# Altium integrated library Cypress PLD MAX EPLD.IntLib: 163 symbols (part 4 of 6)
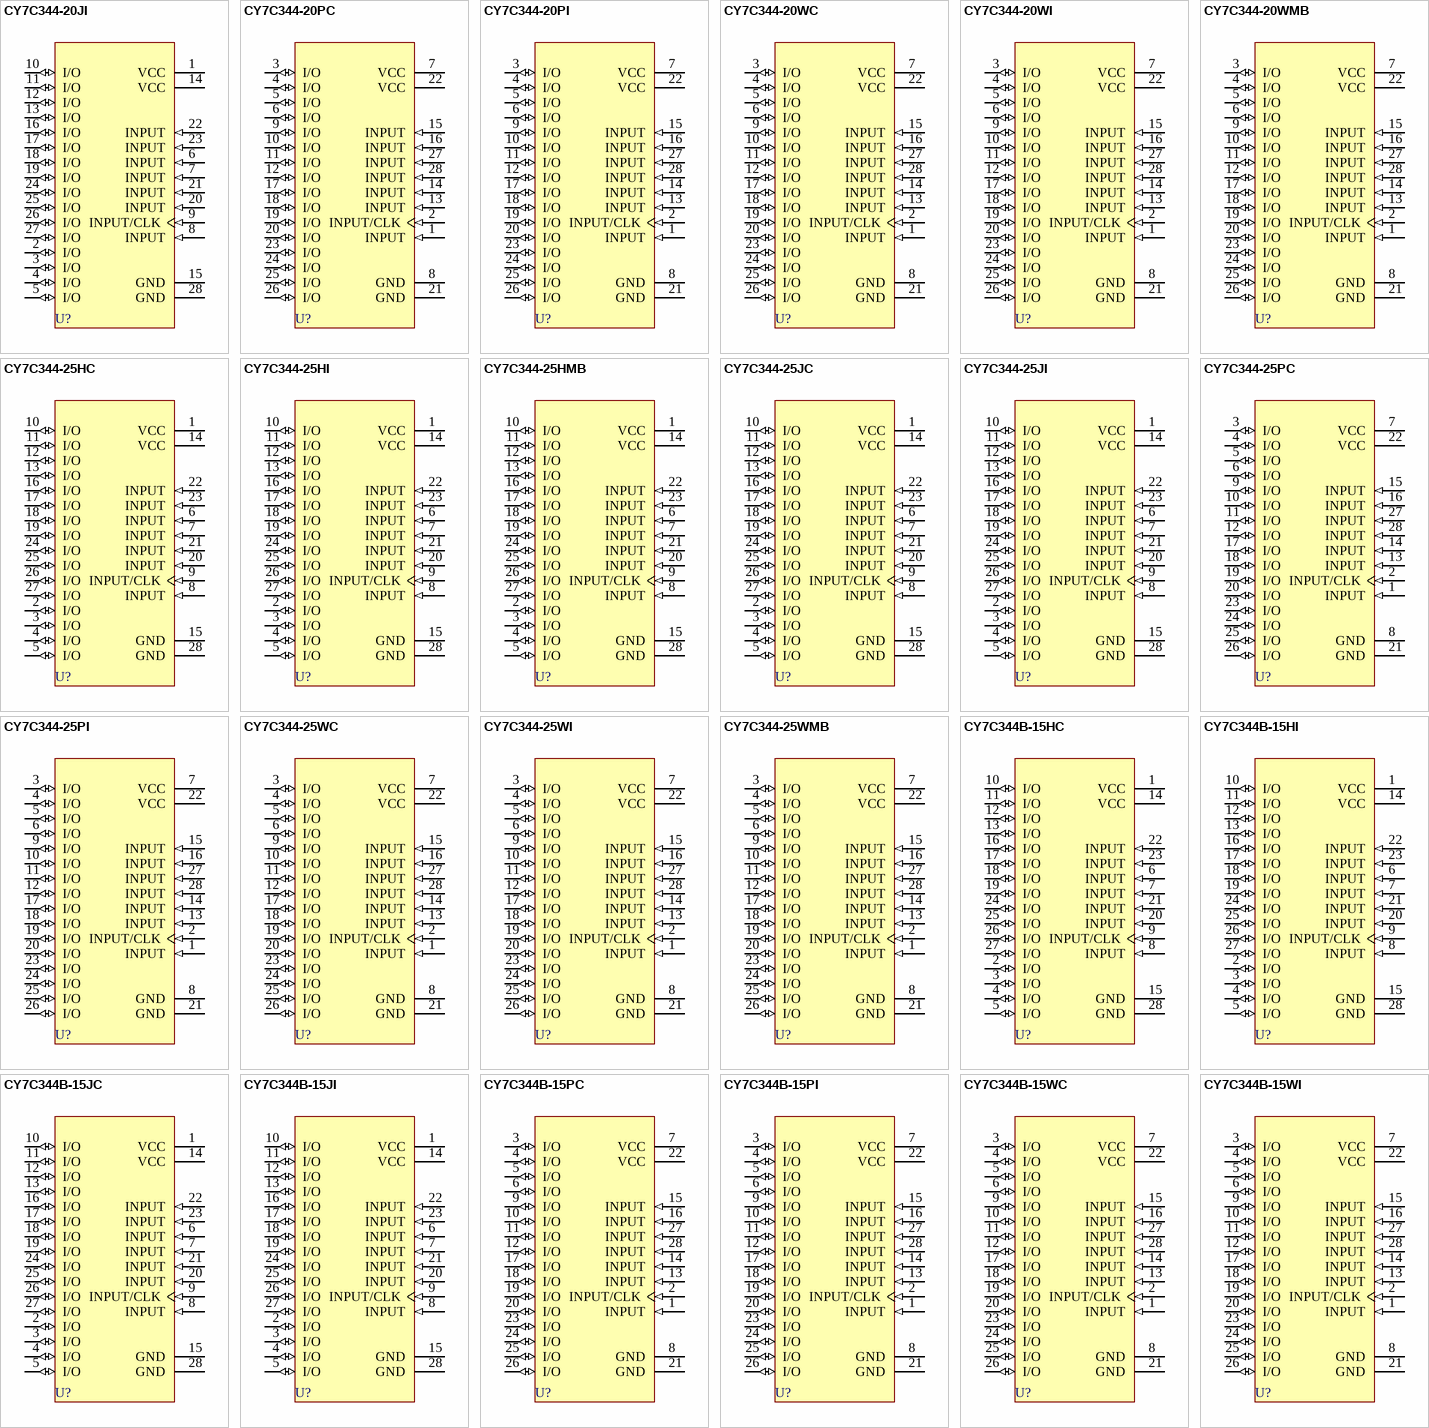
[diagram p26: symbols CY7C344-20JI to CY7C344B-15WI]

## CY7C344-20PC
designator U?
32-Macrocell MAX EPLD; Published: 11-Dec-2002; LatestRevisionDate: 04-Mar-2005; LatestRevisionNote: Stylized 3D Model Added.; DatasheetVersion: 18-Jul-2000; PackageVersion: Jul-2000; PackageReference: P21; Publisher: Altium Limited; PackageDescription: DIP, Molded; 28 Leads; Row Spacing 7.62 mm; Pitch 2.54 mm; ComponentLink1Description: Manufacturer Link; ComponentLink1URL: http://www.cypress.com/
footprint P21 (DIP, Molded; 28 Leads; Row Spacing 7.62 mm; Pitch 2.54 mm)
3D model P21 (DIP, Molded; 28 Leads; Row Spacing 7.62 mm; Pitch 2.54 mm)
pins: 1 INPUT (in), 2 INPUT/CLK (in), 3 I/O (io), 4 I/O (io), 5 I/O (io), 6 I/O (io), 7 VCC (power), 8 GND (power), 9 I/O (io), 10 I/O (io), 11 I/O (io), 12 I/O (io), 13 INPUT (in), 14 INPUT (in), 15 INPUT (in), 16 INPUT (in), 17 I/O (io), 18 I/O (io), 19 I/O (io), 20 I/O (io), 21 GND (power), 22 VCC (power), 23 I/O (io), 24 I/O (io), 25 I/O (io), 26 I/O (io), 27 INPUT (in), 28 INPUT (in)

## CY7C344-20PI
designator U?
32-Macrocell MAX EPLD; Published: 11-Dec-2002; LatestRevisionDate: 04-Mar-2005; LatestRevisionNote: Stylized 3D Model Added.; DatasheetVersion: 18-Jul-2000; PackageVersion: Jul-2000; PackageReference: P21; Publisher: Altium Limited; PackageDescription: DIP, Molded; 28 Leads; Row Spacing 7.62 mm; Pitch 2.54 mm; ComponentLink1Description: Manufacturer Link; ComponentLink1URL: http://www.cypress.com/
footprint P21 (DIP, Molded; 28 Leads; Row Spacing 7.62 mm; Pitch 2.54 mm)
3D model P21 (DIP, Molded; 28 Leads; Row Spacing 7.62 mm; Pitch 2.54 mm)
pins: 1 INPUT (in), 2 INPUT/CLK (in), 3 I/O (io), 4 I/O (io), 5 I/O (io), 6 I/O (io), 7 VCC (power), 8 GND (power), 9 I/O (io), 10 I/O (io), 11 I/O (io), 12 I/O (io), 13 INPUT (in), 14 INPUT (in), 15 INPUT (in), 16 INPUT (in), 17 I/O (io), 18 I/O (io), 19 I/O (io), 20 I/O (io), 21 GND (power), 22 VCC (power), 23 I/O (io), 24 I/O (io), 25 I/O (io), 26 I/O (io), 27 INPUT (in), 28 INPUT (in)

## CY7C344-20WC
designator U?
32-Macrocell MAX EPLD; Published: 11-Dec-2002; LatestRevisionDate: 04-Mar-2005; LatestRevisionNote: Stylized 3D Model Added.; DatasheetVersion: 18-Jul-2000; PackageVersion: Jul-2000; PackageReference: W22; Publisher: Altium Limited; PackageDescription: CerDIP, Window; 28 Leads; Row Spacing 7.62 mm; Pitch 2.54 mm; ComponentLink1Description: Manufacturer Link; ComponentLink1URL: http://www.cypress.com/
footprint W22 (CerDIP, Window; 28 Leads; Row Spacing 7.62 mm; Pitch 2.54 mm)
3D model W22 (CerDIP, Window; 28 Leads; Row Spacing 7.62 mm; Pitch 2.54 mm)
pins: 1 INPUT (in), 2 INPUT/CLK (in), 3 I/O (io), 4 I/O (io), 5 I/O (io), 6 I/O (io), 7 VCC (power), 8 GND (power), 9 I/O (io), 10 I/O (io), 11 I/O (io), 12 I/O (io), 13 INPUT (in), 14 INPUT (in), 15 INPUT (in), 16 INPUT (in), 17 I/O (io), 18 I/O (io), 19 I/O (io), 20 I/O (io), 21 GND (power), 22 VCC (power), 23 I/O (io), 24 I/O (io), 25 I/O (io), 26 I/O (io), 27 INPUT (in), 28 INPUT (in)

## CY7C344-20WI
designator U?
32-Macrocell MAX EPLD; Published: 11-Dec-2002; LatestRevisionDate: 04-Mar-2005; LatestRevisionNote: Stylized 3D Model Added.; DatasheetVersion: 18-Jul-2000; PackageVersion: Jul-2000; PackageReference: W22; Publisher: Altium Limited; PackageDescription: CerDIP, Window; 28 Leads; Row Spacing 7.62 mm; Pitch 2.54 mm; ComponentLink1Description: Manufacturer Link; ComponentLink1URL: http://www.cypress.com/
footprint W22 (CerDIP, Window; 28 Leads; Row Spacing 7.62 mm; Pitch 2.54 mm)
3D model W22 (CerDIP, Window; 28 Leads; Row Spacing 7.62 mm; Pitch 2.54 mm)
pins: 1 INPUT (in), 2 INPUT/CLK (in), 3 I/O (io), 4 I/O (io), 5 I/O (io), 6 I/O (io), 7 VCC (power), 8 GND (power), 9 I/O (io), 10 I/O (io), 11 I/O (io), 12 I/O (io), 13 INPUT (in), 14 INPUT (in), 15 INPUT (in), 16 INPUT (in), 17 I/O (io), 18 I/O (io), 19 I/O (io), 20 I/O (io), 21 GND (power), 22 VCC (power), 23 I/O (io), 24 I/O (io), 25 I/O (io), 26 I/O (io), 27 INPUT (in), 28 INPUT (in)

## CY7C344-20WMB
designator U?
32-Macrocell MAX EPLD; Published: 11-Dec-2002; LatestRevisionDate: 04-Mar-2005; LatestRevisionNote: Stylized 3D Model Added.; DatasheetVersion: 18-Jul-2000; PackageVersion: Jul-2000; PackageReference: W22; Publisher: Altium Limited; PackageDescription: CerDIP, Window; 28 Leads; Row Spacing 7.62 mm; Pitch 2.54 mm; ComponentLink1Description: Manufacturer Link; ComponentLink1URL: http://www.cypress.com/
footprint W22 (CerDIP, Window; 28 Leads; Row Spacing 7.62 mm; Pitch 2.54 mm)
3D model W22 (CerDIP, Window; 28 Leads; Row Spacing 7.62 mm; Pitch 2.54 mm)
pins: 1 INPUT (in), 2 INPUT/CLK (in), 3 I/O (io), 4 I/O (io), 5 I/O (io), 6 I/O (io), 7 VCC (power), 8 GND (power), 9 I/O (io), 10 I/O (io), 11 I/O (io), 12 I/O (io), 13 INPUT (in), 14 INPUT (in), 15 INPUT (in), 16 INPUT (in), 17 I/O (io), 18 I/O (io), 19 I/O (io), 20 I/O (io), 21 GND (power), 22 VCC (power), 23 I/O (io), 24 I/O (io), 25 I/O (io), 26 I/O (io), 27 INPUT (in), 28 INPUT (in)

## CY7C344-25HC
designator U?
32-Macrocell MAX EPLD; Published: 11-Dec-2002; LatestRevisionDate: 13-Apr-2006; LatestRevisionNote: IPC-7351 Footprint Added.; DatasheetVersion: 18-Jul-2000; PackageVersion: Jul-2000; PackageReference: H64; Publisher: Altium Limited; PackageDescription: 28-Pin Window Leaded Chip Carrier 1.27 mm Pitch; ComponentLink1Description: Manufacturer Link; ComponentLink1URL: http://www.cypress.com/
footprint H64_N (Leaded Chip Carrier, 28-Leads, Body 11.4x11.4mm, Pitch 1.27mm, IPC Medium Density)
footprint H64_L (Leaded Chip Carrier, 28-Leads, Body 11.4x11.4mm, Pitch 1.27mm, IPC High Density)
footprint H64_M (Leaded Chip Carrier, 28-Leads, Body 11.4x11.4mm, Pitch 1.27mm, IPC Low Density)
3D model CY7C344-H64 (28-Pin Window Leaded Chip Carrier 1.27 mm Pitch)
pins: 1 VCC (power), 2 I/O (io), 3 I/O (io), 4 I/O (io), 5 I/O (io), 6 INPUT (in), 7 INPUT (in), 8 INPUT (in), 9 INPUT/CLK (in), 10 I/O (io), 11 I/O (io), 12 I/O (io), 13 I/O (io), 14 VCC (power), 15 GND (power), 16 I/O (io), 17 I/O (io), 18 I/O (io), 19 I/O (io), 20 INPUT (in), 21 INPUT (in), 22 INPUT (in), 23 INPUT (in), 24 I/O (io), 25 I/O (io), 26 I/O (io), 27 I/O (io), 28 GND (power)

## CY7C344-25HI
designator U?
32-Macrocell MAX EPLD; Published: 11-Dec-2002; LatestRevisionDate: 13-Apr-2006; LatestRevisionNote: IPC-7351 Footprint Added.; DatasheetVersion: 18-Jul-2000; PackageVersion: Jul-2000; PackageReference: H64; Publisher: Altium Limited; PackageDescription: 28-Pin Window Leaded Chip Carrier 1.27 mm Pitch; ComponentLink1Description: Manufacturer Link; ComponentLink1URL: http://www.cypress.com/
footprint H64_N (Leaded Chip Carrier, 28-Leads, Body 11.4x11.4mm, Pitch 1.27mm, IPC Medium Density)
footprint H64_L (Leaded Chip Carrier, 28-Leads, Body 11.4x11.4mm, Pitch 1.27mm, IPC High Density)
footprint H64_M (Leaded Chip Carrier, 28-Leads, Body 11.4x11.4mm, Pitch 1.27mm, IPC Low Density)
3D model CY7C344-H64 (28-Pin Window Leaded Chip Carrier 1.27 mm Pitch)
pins: 1 VCC (power), 2 I/O (io), 3 I/O (io), 4 I/O (io), 5 I/O (io), 6 INPUT (in), 7 INPUT (in), 8 INPUT (in), 9 INPUT/CLK (in), 10 I/O (io), 11 I/O (io), 12 I/O (io), 13 I/O (io), 14 VCC (power), 15 GND (power), 16 I/O (io), 17 I/O (io), 18 I/O (io), 19 I/O (io), 20 INPUT (in), 21 INPUT (in), 22 INPUT (in), 23 INPUT (in), 24 I/O (io), 25 I/O (io), 26 I/O (io), 27 I/O (io), 28 GND (power)

## CY7C344-25HMB
designator U?
32-Macrocell MAX EPLD; Published: 11-Dec-2002; LatestRevisionDate: 13-Apr-2006; LatestRevisionNote: IPC-7351 Footprint Added.; DatasheetVersion: 18-Jul-2000; PackageVersion: Jul-2000; PackageReference: H64; Publisher: Altium Limited; PackageDescription: 28-Pin Window Leaded Chip Carrier 1.27 mm Pitch; ComponentLink1Description: Manufacturer Link; ComponentLink1URL: http://www.cypress.com/
footprint H64_N (Leaded Chip Carrier, 28-Leads, Body 11.4x11.4mm, Pitch 1.27mm, IPC Medium Density)
footprint H64_L (Leaded Chip Carrier, 28-Leads, Body 11.4x11.4mm, Pitch 1.27mm, IPC High Density)
footprint H64_M (Leaded Chip Carrier, 28-Leads, Body 11.4x11.4mm, Pitch 1.27mm, IPC Low Density)
3D model CY7C344-H64 (28-Pin Window Leaded Chip Carrier 1.27 mm Pitch)
pins: 1 VCC (power), 2 I/O (io), 3 I/O (io), 4 I/O (io), 5 I/O (io), 6 INPUT (in), 7 INPUT (in), 8 INPUT (in), 9 INPUT/CLK (in), 10 I/O (io), 11 I/O (io), 12 I/O (io), 13 I/O (io), 14 VCC (power), 15 GND (power), 16 I/O (io), 17 I/O (io), 18 I/O (io), 19 I/O (io), 20 INPUT (in), 21 INPUT (in), 22 INPUT (in), 23 INPUT (in), 24 I/O (io), 25 I/O (io), 26 I/O (io), 27 I/O (io), 28 GND (power)

## CY7C344-25JC
designator U?
32-Macrocell MAX EPLD; Published: 11-Dec-2002; LatestRevisionDate: 13-Apr-2006; LatestRevisionNote: IPC-7351 Footprint Added.; DatasheetVersion: 18-Jul-2000; PackageVersion: Jul-2000; PackageReference: J64; Publisher: Altium Limited; PackageDescription: 28-Pin Plastic Leaded Chip Carrier 1.27 mm Pitch; Code_IPC: PLCC-28; ComponentLink1Description: Manufacturer Link; ComponentLink1URL: http://www.cypress.com/
footprint J64_N (Leaded Chip Carrier, 28-Leads, Body 11.5x11.5mm, Pitch 1.27mm, IPC Medium Density)
footprint J64_L (Leaded Chip Carrier, 28-Leads, Body 11.5x11.5mm, Pitch 1.27mm, IPC High Density)
footprint J64_M (Leaded Chip Carrier, 28-Leads, Body 11.5x11.5mm, Pitch 1.27mm, IPC Low Density)
3D model CY7C344-J64 (28-Pin Plastic Leaded Chip Carrier 1.27 mm Pitch)
pins: 1 VCC (power), 2 I/O (io), 3 I/O (io), 4 I/O (io), 5 I/O (io), 6 INPUT (in), 7 INPUT (in), 8 INPUT (in), 9 INPUT/CLK (in), 10 I/O (io), 11 I/O (io), 12 I/O (io), 13 I/O (io), 14 VCC (power), 15 GND (power), 16 I/O (io), 17 I/O (io), 18 I/O (io), 19 I/O (io), 20 INPUT (in), 21 INPUT (in), 22 INPUT (in), 23 INPUT (in), 24 I/O (io), 25 I/O (io), 26 I/O (io), 27 I/O (io), 28 GND (power)

## CY7C344-25JI
designator U?
32-Macrocell MAX EPLD; Published: 11-Dec-2002; LatestRevisionDate: 13-Apr-2006; LatestRevisionNote: IPC-7351 Footprint Added.; DatasheetVersion: 18-Jul-2000; PackageVersion: Jul-2000; PackageReference: J64; Publisher: Altium Limited; PackageDescription: 28-Pin Plastic Leaded Chip Carrier 1.27 mm Pitch; Code_IPC: PLCC-28; ComponentLink1Description: Manufacturer Link; ComponentLink1URL: http://www.cypress.com/
footprint J64_N (Leaded Chip Carrier, 28-Leads, Body 11.5x11.5mm, Pitch 1.27mm, IPC Medium Density)
footprint J64_L (Leaded Chip Carrier, 28-Leads, Body 11.5x11.5mm, Pitch 1.27mm, IPC High Density)
footprint J64_M (Leaded Chip Carrier, 28-Leads, Body 11.5x11.5mm, Pitch 1.27mm, IPC Low Density)
3D model CY7C344-J64 (28-Pin Plastic Leaded Chip Carrier 1.27 mm Pitch)
pins: 1 VCC (power), 2 I/O (io), 3 I/O (io), 4 I/O (io), 5 I/O (io), 6 INPUT (in), 7 INPUT (in), 8 INPUT (in), 9 INPUT/CLK (in), 10 I/O (io), 11 I/O (io), 12 I/O (io), 13 I/O (io), 14 VCC (power), 15 GND (power), 16 I/O (io), 17 I/O (io), 18 I/O (io), 19 I/O (io), 20 INPUT (in), 21 INPUT (in), 22 INPUT (in), 23 INPUT (in), 24 I/O (io), 25 I/O (io), 26 I/O (io), 27 I/O (io), 28 GND (power)

## CY7C344-25PC
designator U?
32-Macrocell MAX EPLD; Published: 11-Dec-2002; LatestRevisionDate: 04-Mar-2005; LatestRevisionNote: Stylized 3D Model Added.; DatasheetVersion: 18-Jul-2000; PackageVersion: Jul-2000; PackageReference: P21; Publisher: Altium Limited; PackageDescription: DIP, Molded; 28 Leads; Row Spacing 7.62 mm; Pitch 2.54 mm; ComponentLink1Description: Manufacturer Link; ComponentLink1URL: http://www.cypress.com/
footprint P21 (DIP, Molded; 28 Leads; Row Spacing 7.62 mm; Pitch 2.54 mm)
3D model P21 (DIP, Molded; 28 Leads; Row Spacing 7.62 mm; Pitch 2.54 mm)
pins: 1 INPUT (in), 2 INPUT/CLK (in), 3 I/O (io), 4 I/O (io), 5 I/O (io), 6 I/O (io), 7 VCC (power), 8 GND (power), 9 I/O (io), 10 I/O (io), 11 I/O (io), 12 I/O (io), 13 INPUT (in), 14 INPUT (in), 15 INPUT (in), 16 INPUT (in), 17 I/O (io), 18 I/O (io), 19 I/O (io), 20 I/O (io), 21 GND (power), 22 VCC (power), 23 I/O (io), 24 I/O (io), 25 I/O (io), 26 I/O (io), 27 INPUT (in), 28 INPUT (in)

## CY7C344-25PI
designator U?
32-Macrocell MAX EPLD; Published: 11-Dec-2002; LatestRevisionDate: 04-Mar-2005; LatestRevisionNote: Stylized 3D Model Added.; DatasheetVersion: 18-Jul-2000; PackageVersion: Jul-2000; PackageReference: P21; Publisher: Altium Limited; PackageDescription: DIP, Molded; 28 Leads; Row Spacing 7.62 mm; Pitch 2.54 mm; ComponentLink1Description: Manufacturer Link; ComponentLink1URL: http://www.cypress.com/
footprint P21 (DIP, Molded; 28 Leads; Row Spacing 7.62 mm; Pitch 2.54 mm)
3D model P21 (DIP, Molded; 28 Leads; Row Spacing 7.62 mm; Pitch 2.54 mm)
pins: 1 INPUT (in), 2 INPUT/CLK (in), 3 I/O (io), 4 I/O (io), 5 I/O (io), 6 I/O (io), 7 VCC (power), 8 GND (power), 9 I/O (io), 10 I/O (io), 11 I/O (io), 12 I/O (io), 13 INPUT (in), 14 INPUT (in), 15 INPUT (in), 16 INPUT (in), 17 I/O (io), 18 I/O (io), 19 I/O (io), 20 I/O (io), 21 GND (power), 22 VCC (power), 23 I/O (io), 24 I/O (io), 25 I/O (io), 26 I/O (io), 27 INPUT (in), 28 INPUT (in)

## CY7C344-25WC
designator U?
32-Macrocell MAX EPLD; Published: 11-Dec-2002; LatestRevisionDate: 04-Mar-2005; LatestRevisionNote: Stylized 3D Model Added.; DatasheetVersion: 18-Jul-2000; PackageVersion: Jul-2000; PackageReference: W22; Publisher: Altium Limited; PackageDescription: CerDIP, Window; 28 Leads; Row Spacing 7.62 mm; Pitch 2.54 mm; ComponentLink1Description: Manufacturer Link; ComponentLink1URL: http://www.cypress.com/
footprint W22 (CerDIP, Window; 28 Leads; Row Spacing 7.62 mm; Pitch 2.54 mm)
3D model W22 (CerDIP, Window; 28 Leads; Row Spacing 7.62 mm; Pitch 2.54 mm)
pins: 1 INPUT (in), 2 INPUT/CLK (in), 3 I/O (io), 4 I/O (io), 5 I/O (io), 6 I/O (io), 7 VCC (power), 8 GND (power), 9 I/O (io), 10 I/O (io), 11 I/O (io), 12 I/O (io), 13 INPUT (in), 14 INPUT (in), 15 INPUT (in), 16 INPUT (in), 17 I/O (io), 18 I/O (io), 19 I/O (io), 20 I/O (io), 21 GND (power), 22 VCC (power), 23 I/O (io), 24 I/O (io), 25 I/O (io), 26 I/O (io), 27 INPUT (in), 28 INPUT (in)

## CY7C344-25WI
designator U?
32-Macrocell MAX EPLD; Published: 11-Dec-2002; LatestRevisionDate: 04-Mar-2005; LatestRevisionNote: Stylized 3D Model Added.; DatasheetVersion: 18-Jul-2000; PackageVersion: Jul-2000; PackageReference: W22; Publisher: Altium Limited; PackageDescription: CerDIP, Window; 28 Leads; Row Spacing 7.62 mm; Pitch 2.54 mm; ComponentLink1Description: Manufacturer Link; ComponentLink1URL: http://www.cypress.com/
footprint W22 (CerDIP, Window; 28 Leads; Row Spacing 7.62 mm; Pitch 2.54 mm)
3D model W22 (CerDIP, Window; 28 Leads; Row Spacing 7.62 mm; Pitch 2.54 mm)
pins: 1 INPUT (in), 2 INPUT/CLK (in), 3 I/O (io), 4 I/O (io), 5 I/O (io), 6 I/O (io), 7 VCC (power), 8 GND (power), 9 I/O (io), 10 I/O (io), 11 I/O (io), 12 I/O (io), 13 INPUT (in), 14 INPUT (in), 15 INPUT (in), 16 INPUT (in), 17 I/O (io), 18 I/O (io), 19 I/O (io), 20 I/O (io), 21 GND (power), 22 VCC (power), 23 I/O (io), 24 I/O (io), 25 I/O (io), 26 I/O (io), 27 INPUT (in), 28 INPUT (in)

## CY7C344-25WMB
designator U?
32-Macrocell MAX EPLD; Published: 11-Dec-2002; LatestRevisionDate: 04-Mar-2005; LatestRevisionNote: Stylized 3D Model Added.; DatasheetVersion: 18-Jul-2000; PackageVersion: Jul-2000; PackageReference: W22; Publisher: Altium Limited; PackageDescription: CerDIP, Window; 28 Leads; Row Spacing 7.62 mm; Pitch 2.54 mm; ComponentLink1Description: Manufacturer Link; ComponentLink1URL: http://www.cypress.com/
footprint W22 (CerDIP, Window; 28 Leads; Row Spacing 7.62 mm; Pitch 2.54 mm)
3D model W22 (CerDIP, Window; 28 Leads; Row Spacing 7.62 mm; Pitch 2.54 mm)
pins: 1 INPUT (in), 2 INPUT/CLK (in), 3 I/O (io), 4 I/O (io), 5 I/O (io), 6 I/O (io), 7 VCC (power), 8 GND (power), 9 I/O (io), 10 I/O (io), 11 I/O (io), 12 I/O (io), 13 INPUT (in), 14 INPUT (in), 15 INPUT (in), 16 INPUT (in), 17 I/O (io), 18 I/O (io), 19 I/O (io), 20 I/O (io), 21 GND (power), 22 VCC (power), 23 I/O (io), 24 I/O (io), 25 I/O (io), 26 I/O (io), 27 INPUT (in), 28 INPUT (in)

## CY7C344B-15HC
designator U?
32-Macrocell MAX EPLD; Published: 11-Dec-2002; LatestRevisionDate: 13-Apr-2006; LatestRevisionNote: IPC-7351 Footprint Added.; DatasheetVersion: 8-Dec-1999; PackageVersion: Jul-2000; PackageReference: H64; Publisher: Altium Limited; PackageDescription: 28-Pin Window Leaded Chip Carrier 1.27 mm Pitch; ComponentLink1Description: Manufacturer Link; ComponentLink1URL: http://www.cypress.com/; ComponentLink2Description: Datasheet; ComponentLink2URL: http://www.cypress.com/portal/server.pt/gateway/PTARGS_0_2_1524_209_259_43/http%3B/sjapp20.mis.cypress.com%3B7001/publishedcontent/publish/design_resources/datasheets/contents/cy7c344b_5.pdf
footprint H64_N (Leaded Chip Carrier, 28-Leads, Body 11.4x11.4mm, Pitch 1.27mm, IPC Medium Density)
footprint H64_L (Leaded Chip Carrier, 28-Leads, Body 11.4x11.4mm, Pitch 1.27mm, IPC High Density)
footprint H64_M (Leaded Chip Carrier, 28-Leads, Body 11.4x11.4mm, Pitch 1.27mm, IPC Low Density)
3D model CY7C344B-H64 (28-Pin Window Leaded Chip Carrier 1.27 mm Pitch)
pins: 1 VCC (power), 2 I/O (io), 3 I/O (io), 4 I/O (io), 5 I/O (io), 6 INPUT (in), 7 INPUT (in), 8 INPUT (in), 9 INPUT/CLK (in), 10 I/O (io), 11 I/O (io), 12 I/O (io), 13 I/O (io), 14 VCC (power), 15 GND (power), 16 I/O (io), 17 I/O (io), 18 I/O (io), 19 I/O (io), 20 INPUT (in), 21 INPUT (in), 22 INPUT (in), 23 INPUT (in), 24 I/O (io), 25 I/O (io), 26 I/O (io), 27 I/O (io), 28 GND (power)

## CY7C344B-15HI
designator U?
32-Macrocell MAX EPLD; Published: 11-Dec-2002; LatestRevisionDate: 13-Apr-2006; LatestRevisionNote: IPC-7351 Footprint Added.; DatasheetVersion: 8-Dec-1999; PackageVersion: Jul-2000; PackageReference: H64; Publisher: Altium Limited; PackageDescription: 28-Pin Window Leaded Chip Carrier 1.27 mm Pitch; ComponentLink1Description: Manufacturer Link; ComponentLink1URL: http://www.cypress.com/; ComponentLink2Description: Datasheet; ComponentLink2URL: http://www.cypress.com/portal/server.pt/gateway/PTARGS_0_2_1524_209_259_43/http%3B/sjapp20.mis.cypress.com%3B7001/publishedcontent/publish/design_resources/datasheets/contents/cy7c344b_5.pdf
footprint H64_N (Leaded Chip Carrier, 28-Leads, Body 11.4x11.4mm, Pitch 1.27mm, IPC Medium Density)
footprint H64_L (Leaded Chip Carrier, 28-Leads, Body 11.4x11.4mm, Pitch 1.27mm, IPC High Density)
footprint H64_M (Leaded Chip Carrier, 28-Leads, Body 11.4x11.4mm, Pitch 1.27mm, IPC Low Density)
3D model CY7C344B-H64 (28-Pin Window Leaded Chip Carrier 1.27 mm Pitch)
pins: 1 VCC (power), 2 I/O (io), 3 I/O (io), 4 I/O (io), 5 I/O (io), 6 INPUT (in), 7 INPUT (in), 8 INPUT (in), 9 INPUT/CLK (in), 10 I/O (io), 11 I/O (io), 12 I/O (io), 13 I/O (io), 14 VCC (power), 15 GND (power), 16 I/O (io), 17 I/O (io), 18 I/O (io), 19 I/O (io), 20 INPUT (in), 21 INPUT (in), 22 INPUT (in), 23 INPUT (in), 24 I/O (io), 25 I/O (io), 26 I/O (io), 27 I/O (io), 28 GND (power)

## CY7C344B-15JC
designator U?
32-Macrocell MAX EPLD; Published: 11-Dec-2002; LatestRevisionDate: 13-Apr-2006; LatestRevisionNote: IPC-7351 Footprint Added.; DatasheetVersion: 8-Dec-1999; PackageVersion: Jul-2000; PackageReference: J64; Publisher: Altium Limited; PackageDescription: 28-Pin Plastic Leaded Chip Carrier 1.27 mm Pitch; Code_IPC: PLCC-28; ComponentLink1Description: Manufacturer Link; ComponentLink1URL: http://www.cypress.com/; ComponentLink2Description: Datasheet; ComponentLink2URL: http://www.cypress.com/portal/server.pt/gateway/PTARGS_0_2_1524_209_259_43/http%3B/sjapp20.mis.cypress.com%3B7001/publishedcontent/publish/design_resources/datasheets/contents/cy7c344b_5.pdf
footprint J64_N (Leaded Chip Carrier, 28-Leads, Body 11.5x11.5mm, Pitch 1.27mm, IPC Medium Density)
footprint J64_L (Leaded Chip Carrier, 28-Leads, Body 11.5x11.5mm, Pitch 1.27mm, IPC High Density)
footprint J64_M (Leaded Chip Carrier, 28-Leads, Body 11.5x11.5mm, Pitch 1.27mm, IPC Low Density)
3D model CY7C344B-J64 (28-Pin Plastic Leaded Chip Carrier 1.27 mm Pitch)
pins: 1 VCC (power), 2 I/O (io), 3 I/O (io), 4 I/O (io), 5 I/O (io), 6 INPUT (in), 7 INPUT (in), 8 INPUT (in), 9 INPUT/CLK (in), 10 I/O (io), 11 I/O (io), 12 I/O (io), 13 I/O (io), 14 VCC (power), 15 GND (power), 16 I/O (io), 17 I/O (io), 18 I/O (io), 19 I/O (io), 20 INPUT (in), 21 INPUT (in), 22 INPUT (in), 23 INPUT (in), 24 I/O (io), 25 I/O (io), 26 I/O (io), 27 I/O (io), 28 GND (power)

## CY7C344B-15JI
designator U?
32-Macrocell MAX EPLD; Published: 11-Dec-2002; LatestRevisionDate: 13-Apr-2006; LatestRevisionNote: IPC-7351 Footprint Added.; DatasheetVersion: 8-Dec-1999; PackageVersion: Jul-2000; PackageReference: J64; Publisher: Altium Limited; PackageDescription: 28-Pin Plastic Leaded Chip Carrier 1.27 mm Pitch; Code_IPC: PLCC-28; ComponentLink1Description: Manufacturer Link; ComponentLink1URL: http://www.cypress.com/; ComponentLink2Description: Datasheet; ComponentLink2URL: http://www.cypress.com/portal/server.pt/gateway/PTARGS_0_2_1524_209_259_43/http%3B/sjapp20.mis.cypress.com%3B7001/publishedcontent/publish/design_resources/datasheets/contents/cy7c344b_5.pdf
footprint J64_N (Leaded Chip Carrier, 28-Leads, Body 11.5x11.5mm, Pitch 1.27mm, IPC Medium Density)
footprint J64_L (Leaded Chip Carrier, 28-Leads, Body 11.5x11.5mm, Pitch 1.27mm, IPC High Density)
footprint J64_M (Leaded Chip Carrier, 28-Leads, Body 11.5x11.5mm, Pitch 1.27mm, IPC Low Density)
3D model CY7C344B-J64 (28-Pin Plastic Leaded Chip Carrier 1.27 mm Pitch)
pins: 1 VCC (power), 2 I/O (io), 3 I/O (io), 4 I/O (io), 5 I/O (io), 6 INPUT (in), 7 INPUT (in), 8 INPUT (in), 9 INPUT/CLK (in), 10 I/O (io), 11 I/O (io), 12 I/O (io), 13 I/O (io), 14 VCC (power), 15 GND (power), 16 I/O (io), 17 I/O (io), 18 I/O (io), 19 I/O (io), 20 INPUT (in), 21 INPUT (in), 22 INPUT (in), 23 INPUT (in), 24 I/O (io), 25 I/O (io), 26 I/O (io), 27 I/O (io), 28 GND (power)

## CY7C344B-15PC
designator U?
32-Macrocell MAX EPLD; Published: 11-Dec-2002; LatestRevisionDate: 04-Mar-2005; LatestRevisionNote: Stylized 3D Model Added.; DatasheetVersion: 8-Dec-1999; PackageVersion: Jul-2000; PackageReference: P21; Publisher: Altium Limited; PackageDescription: DIP, Molded; 28 Leads; Row Spacing 7.62 mm; Pitch 2.54 mm; ComponentLink1Description: Manufacturer Link; ComponentLink1URL: http://www.cypress.com/; ComponentLink2Description: Datasheet; ComponentLink2URL: http://www.cypress.com/portal/server.pt/gateway/PTARGS_0_2_1524_209_259_43/http%3B/sjapp20.mis.cypress.com%3B7001/publishedcontent/publish/design_resources/datasheets/contents/cy7c344b_5.pdf
footprint P21 (DIP, Molded; 28 Leads; Row Spacing 7.62 mm; Pitch 2.54 mm)
3D model P21 (DIP, Molded; 28 Leads; Row Spacing 7.62 mm; Pitch 2.54 mm)
pins: 1 INPUT (in), 2 INPUT/CLK (in), 3 I/O (io), 4 I/O (io), 5 I/O (io), 6 I/O (io), 7 VCC (power), 8 GND (power), 9 I/O (io), 10 I/O (io), 11 I/O (io), 12 I/O (io), 13 INPUT (in), 14 INPUT (in), 15 INPUT (in), 16 INPUT (in), 17 I/O (io), 18 I/O (io), 19 I/O (io), 20 I/O (io), 21 GND (power), 22 VCC (power), 23 I/O (io), 24 I/O (io), 25 I/O (io), 26 I/O (io), 27 INPUT (in), 28 INPUT (in)

## CY7C344B-15PI
designator U?
32-Macrocell MAX EPLD; Published: 11-Dec-2002; LatestRevisionDate: 04-Mar-2005; LatestRevisionNote: Stylized 3D Model Added.; DatasheetVersion: 8-Dec-1999; PackageVersion: Jul-2000; PackageReference: P21; Publisher: Altium Limited; PackageDescription: DIP, Molded; 28 Leads; Row Spacing 7.62 mm; Pitch 2.54 mm; ComponentLink1Description: Manufacturer Link; ComponentLink1URL: http://www.cypress.com/; ComponentLink2Description: Datasheet; ComponentLink2URL: http://www.cypress.com/portal/server.pt/gateway/PTARGS_0_2_1524_209_259_43/http%3B/sjapp20.mis.cypress.com%3B7001/publishedcontent/publish/design_resources/datasheets/contents/cy7c344b_5.pdf
footprint P21 (DIP, Molded; 28 Leads; Row Spacing 7.62 mm; Pitch 2.54 mm)
3D model P21 (DIP, Molded; 28 Leads; Row Spacing 7.62 mm; Pitch 2.54 mm)
pins: 1 INPUT (in), 2 INPUT/CLK (in), 3 I/O (io), 4 I/O (io), 5 I/O (io), 6 I/O (io), 7 VCC (power), 8 GND (power), 9 I/O (io), 10 I/O (io), 11 I/O (io), 12 I/O (io), 13 INPUT (in), 14 INPUT (in), 15 INPUT (in), 16 INPUT (in), 17 I/O (io), 18 I/O (io), 19 I/O (io), 20 I/O (io), 21 GND (power), 22 VCC (power), 23 I/O (io), 24 I/O (io), 25 I/O (io), 26 I/O (io), 27 INPUT (in), 28 INPUT (in)

## CY7C344B-15WC
designator U?
32-Macrocell MAX EPLD; Published: 11-Dec-2002; LatestRevisionDate: 04-Mar-2005; LatestRevisionNote: Stylized 3D Model Added.; DatasheetVersion: 8-Dec-1999; PackageVersion: Jul-2000; PackageReference: W22; Publisher: Altium Limited; PackageDescription: CerDIP, Window; 28 Leads; Row Spacing 7.62 mm; Pitch 2.54 mm; ComponentLink1Description: Manufacturer Link; ComponentLink1URL: http://www.cypress.com/; ComponentLink2Description: Datasheet; ComponentLink2URL: http://www.cypress.com/portal/server.pt/gateway/PTARGS_0_2_1524_209_259_43/http%3B/sjapp20.mis.cypress.com%3B7001/publishedcontent/publish/design_resources/datasheets/contents/cy7c344b_5.pdf
footprint W22 (CerDIP, Window; 28 Leads; Row Spacing 7.62 mm; Pitch 2.54 mm)
3D model W22 (CerDIP, Window; 28 Leads; Row Spacing 7.62 mm; Pitch 2.54 mm)
pins: 1 INPUT (in), 2 INPUT/CLK (in), 3 I/O (io), 4 I/O (io), 5 I/O (io), 6 I/O (io), 7 VCC (power), 8 GND (power), 9 I/O (io), 10 I/O (io), 11 I/O (io), 12 I/O (io), 13 INPUT (in), 14 INPUT (in), 15 INPUT (in), 16 INPUT (in), 17 I/O (io), 18 I/O (io), 19 I/O (io), 20 I/O (io), 21 GND (power), 22 VCC (power), 23 I/O (io), 24 I/O (io), 25 I/O (io), 26 I/O (io), 27 INPUT (in), 28 INPUT (in)

## CY7C344B-15WI
designator U?
32-Macrocell MAX EPLD; Published: 11-Dec-2002; LatestRevisionDate: 04-Mar-2005; LatestRevisionNote: Stylized 3D Model Added.; DatasheetVersion: 8-Dec-1999; PackageVersion: Jul-2000; PackageReference: W22; Publisher: Altium Limited; PackageDescription: CerDIP, Window; 28 Leads; Row Spacing 7.62 mm; Pitch 2.54 mm; ComponentLink1Description: Manufacturer Link; ComponentLink1URL: http://www.cypress.com/; ComponentLink2Description: Datasheet; ComponentLink2URL: http://www.cypress.com/portal/server.pt/gateway/PTARGS_0_2_1524_209_259_43/http%3B/sjapp20.mis.cypress.com%3B7001/publishedcontent/publish/design_resources/datasheets/contents/cy7c344b_5.pdf
footprint W22 (CerDIP, Window; 28 Leads; Row Spacing 7.62 mm; Pitch 2.54 mm)
3D model W22 (CerDIP, Window; 28 Leads; Row Spacing 7.62 mm; Pitch 2.54 mm)
pins: 1 INPUT (in), 2 INPUT/CLK (in), 3 I/O (io), 4 I/O (io), 5 I/O (io), 6 I/O (io), 7 VCC (power), 8 GND (power), 9 I/O (io), 10 I/O (io), 11 I/O (io), 12 I/O (io), 13 INPUT (in), 14 INPUT (in), 15 INPUT (in), 16 INPUT (in), 17 I/O (io), 18 I/O (io), 19 I/O (io), 20 I/O (io), 21 GND (power), 22 VCC (power), 23 I/O (io), 24 I/O (io), 25 I/O (io), 26 I/O (io), 27 INPUT (in), 28 INPUT (in)

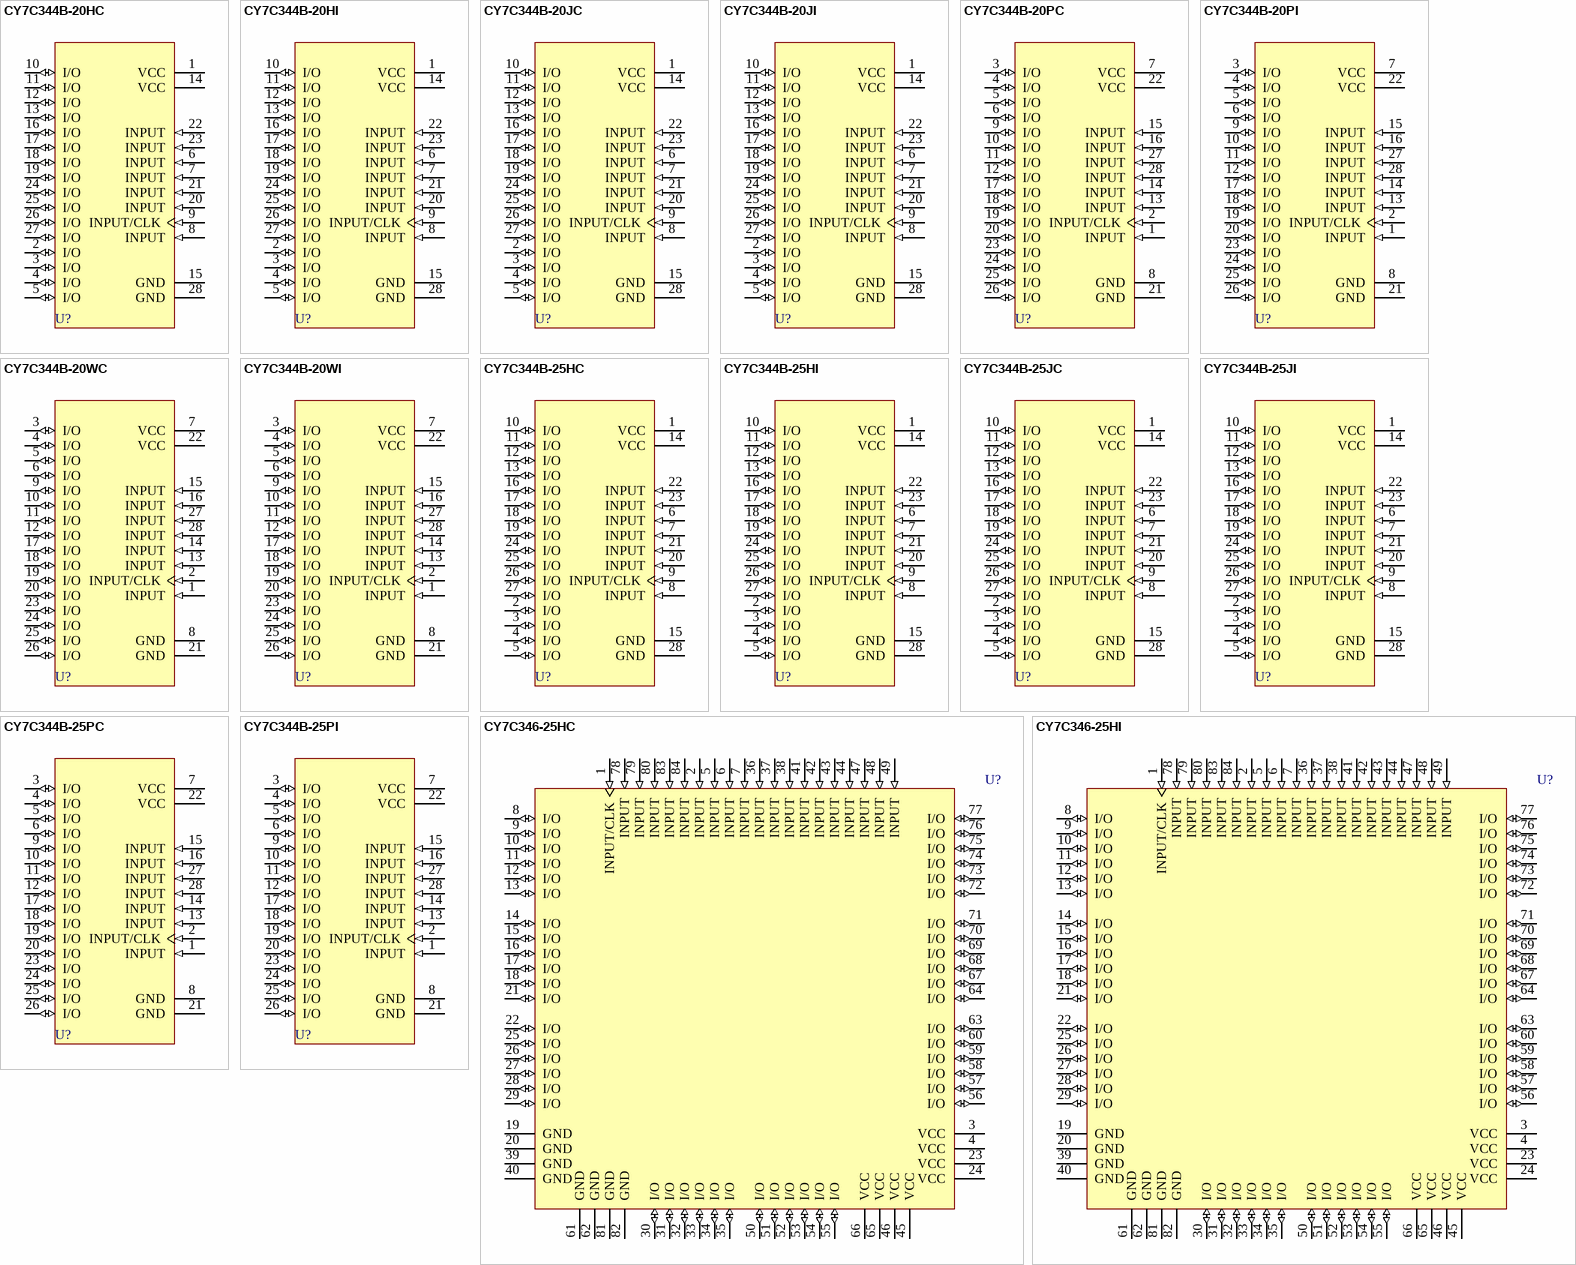
[diagram p13: symbols CY7C344B-20HC to CY7C346-25HI]

## CY7C344B-20HC
designator U?
32-Macrocell MAX EPLD; Published: 11-Dec-2002; LatestRevisionDate: 13-Apr-2006; LatestRevisionNote: IPC-7351 Footprint Added.; DatasheetVersion: 8-Dec-1999; PackageVersion: Jul-2000; PackageReference: H64; Publisher: Altium Limited; PackageDescription: 28-Pin Window Leaded Chip Carrier 1.27 mm Pitch; ComponentLink1Description: Manufacturer Link; ComponentLink1URL: http://www.cypress.com/; ComponentLink2Description: Datasheet; ComponentLink2URL: http://www.cypress.com/portal/server.pt/gateway/PTARGS_0_2_1524_209_259_43/http%3B/sjapp20.mis.cypress.com%3B7001/publishedcontent/publish/design_resources/datasheets/contents/cy7c344b_5.pdf
footprint H64_N (Leaded Chip Carrier, 28-Leads, Body 11.4x11.4mm, Pitch 1.27mm, IPC Medium Density)
footprint H64_L (Leaded Chip Carrier, 28-Leads, Body 11.4x11.4mm, Pitch 1.27mm, IPC High Density)
footprint H64_M (Leaded Chip Carrier, 28-Leads, Body 11.4x11.4mm, Pitch 1.27mm, IPC Low Density)
3D model CY7C344B-H64 (28-Pin Window Leaded Chip Carrier 1.27 mm Pitch)
pins: 1 VCC (power), 2 I/O (io), 3 I/O (io), 4 I/O (io), 5 I/O (io), 6 INPUT (in), 7 INPUT (in), 8 INPUT (in), 9 INPUT/CLK (in), 10 I/O (io), 11 I/O (io), 12 I/O (io), 13 I/O (io), 14 VCC (power), 15 GND (power), 16 I/O (io), 17 I/O (io), 18 I/O (io), 19 I/O (io), 20 INPUT (in), 21 INPUT (in), 22 INPUT (in), 23 INPUT (in), 24 I/O (io), 25 I/O (io), 26 I/O (io), 27 I/O (io), 28 GND (power)

## CY7C344B-20HI
designator U?
32-Macrocell MAX EPLD; Published: 11-Dec-2002; LatestRevisionDate: 13-Apr-2006; LatestRevisionNote: IPC-7351 Footprint Added.; DatasheetVersion: 8-Dec-1999; PackageVersion: Jul-2000; PackageReference: H64; Publisher: Altium Limited; PackageDescription: 28-Pin Window Leaded Chip Carrier 1.27 mm Pitch; ComponentLink1Description: Manufacturer Link; ComponentLink1URL: http://www.cypress.com/; ComponentLink2Description: Datasheet; ComponentLink2URL: http://www.cypress.com/portal/server.pt/gateway/PTARGS_0_2_1524_209_259_43/http%3B/sjapp20.mis.cypress.com%3B7001/publishedcontent/publish/design_resources/datasheets/contents/cy7c344b_5.pdf
footprint H64_N (Leaded Chip Carrier, 28-Leads, Body 11.4x11.4mm, Pitch 1.27mm, IPC Medium Density)
footprint H64_L (Leaded Chip Carrier, 28-Leads, Body 11.4x11.4mm, Pitch 1.27mm, IPC High Density)
footprint H64_M (Leaded Chip Carrier, 28-Leads, Body 11.4x11.4mm, Pitch 1.27mm, IPC Low Density)
3D model CY7C344B-H64 (28-Pin Window Leaded Chip Carrier 1.27 mm Pitch)
pins: 1 VCC (power), 2 I/O (io), 3 I/O (io), 4 I/O (io), 5 I/O (io), 6 INPUT (in), 7 INPUT (in), 8 INPUT (in), 9 INPUT/CLK (in), 10 I/O (io), 11 I/O (io), 12 I/O (io), 13 I/O (io), 14 VCC (power), 15 GND (power), 16 I/O (io), 17 I/O (io), 18 I/O (io), 19 I/O (io), 20 INPUT (in), 21 INPUT (in), 22 INPUT (in), 23 INPUT (in), 24 I/O (io), 25 I/O (io), 26 I/O (io), 27 I/O (io), 28 GND (power)

## CY7C344B-20JC
designator U?
32-Macrocell MAX EPLD; Published: 11-Dec-2002; LatestRevisionDate: 13-Apr-2006; LatestRevisionNote: IPC-7351 Footprint Added.; DatasheetVersion: 8-Dec-1999; PackageVersion: Jul-2000; PackageReference: J64; Publisher: Altium Limited; PackageDescription: 28-Pin Plastic Leaded Chip Carrier 1.27 mm Pitch; Code_IPC: PLCC-28; ComponentLink1Description: Manufacturer Link; ComponentLink1URL: http://www.cypress.com/; ComponentLink2Description: Datasheet; ComponentLink2URL: http://www.cypress.com/portal/server.pt/gateway/PTARGS_0_2_1524_209_259_43/http%3B/sjapp20.mis.cypress.com%3B7001/publishedcontent/publish/design_resources/datasheets/contents/cy7c344b_5.pdf
footprint J64_N (Leaded Chip Carrier, 28-Leads, Body 11.5x11.5mm, Pitch 1.27mm, IPC Medium Density)
footprint J64_L (Leaded Chip Carrier, 28-Leads, Body 11.5x11.5mm, Pitch 1.27mm, IPC High Density)
footprint J64_M (Leaded Chip Carrier, 28-Leads, Body 11.5x11.5mm, Pitch 1.27mm, IPC Low Density)
3D model CY7C344B-J64 (28-Pin Plastic Leaded Chip Carrier 1.27 mm Pitch)
pins: 1 VCC (power), 2 I/O (io), 3 I/O (io), 4 I/O (io), 5 I/O (io), 6 INPUT (in), 7 INPUT (in), 8 INPUT (in), 9 INPUT/CLK (in), 10 I/O (io), 11 I/O (io), 12 I/O (io), 13 I/O (io), 14 VCC (power), 15 GND (power), 16 I/O (io), 17 I/O (io), 18 I/O (io), 19 I/O (io), 20 INPUT (in), 21 INPUT (in), 22 INPUT (in), 23 INPUT (in), 24 I/O (io), 25 I/O (io), 26 I/O (io), 27 I/O (io), 28 GND (power)

## CY7C344B-20JI
designator U?
32-Macrocell MAX EPLD; Published: 11-Dec-2002; LatestRevisionDate: 13-Apr-2006; LatestRevisionNote: IPC-7351 Footprint Added.; DatasheetVersion: 8-Dec-1999; PackageVersion: Jul-2000; PackageReference: J64; Publisher: Altium Limited; PackageDescription: 28-Pin Plastic Leaded Chip Carrier 1.27 mm Pitch; Code_IPC: PLCC-28; ComponentLink1Description: Manufacturer Link; ComponentLink1URL: http://www.cypress.com/; ComponentLink2Description: Datasheet; ComponentLink2URL: http://www.cypress.com/portal/server.pt/gateway/PTARGS_0_2_1524_209_259_43/http%3B/sjapp20.mis.cypress.com%3B7001/publishedcontent/publish/design_resources/datasheets/contents/cy7c344b_5.pdf
footprint J64_N (Leaded Chip Carrier, 28-Leads, Body 11.5x11.5mm, Pitch 1.27mm, IPC Medium Density)
footprint J64_L (Leaded Chip Carrier, 28-Leads, Body 11.5x11.5mm, Pitch 1.27mm, IPC High Density)
footprint J64_M (Leaded Chip Carrier, 28-Leads, Body 11.5x11.5mm, Pitch 1.27mm, IPC Low Density)
3D model CY7C344B-J64 (28-Pin Plastic Leaded Chip Carrier 1.27 mm Pitch)
pins: 1 VCC (power), 2 I/O (io), 3 I/O (io), 4 I/O (io), 5 I/O (io), 6 INPUT (in), 7 INPUT (in), 8 INPUT (in), 9 INPUT/CLK (in), 10 I/O (io), 11 I/O (io), 12 I/O (io), 13 I/O (io), 14 VCC (power), 15 GND (power), 16 I/O (io), 17 I/O (io), 18 I/O (io), 19 I/O (io), 20 INPUT (in), 21 INPUT (in), 22 INPUT (in), 23 INPUT (in), 24 I/O (io), 25 I/O (io), 26 I/O (io), 27 I/O (io), 28 GND (power)

## CY7C344B-20PC
designator U?
32-Macrocell MAX EPLD; Published: 11-Dec-2002; LatestRevisionDate: 04-Mar-2005; LatestRevisionNote: Stylized 3D Model Added.; DatasheetVersion: 8-Dec-1999; PackageVersion: Jul-2000; PackageReference: P21; Publisher: Altium Limited; PackageDescription: DIP, Molded; 28 Leads; Row Spacing 7.62 mm; Pitch 2.54 mm; ComponentLink1Description: Manufacturer Link; ComponentLink1URL: http://www.cypress.com/; ComponentLink2Description: Datasheet; ComponentLink2URL: http://www.cypress.com/portal/server.pt/gateway/PTARGS_0_2_1524_209_259_43/http%3B/sjapp20.mis.cypress.com%3B7001/publishedcontent/publish/design_resources/datasheets/contents/cy7c344b_5.pdf
footprint P21 (DIP, Molded; 28 Leads; Row Spacing 7.62 mm; Pitch 2.54 mm)
3D model P21 (DIP, Molded; 28 Leads; Row Spacing 7.62 mm; Pitch 2.54 mm)
pins: 1 INPUT (in), 2 INPUT/CLK (in), 3 I/O (io), 4 I/O (io), 5 I/O (io), 6 I/O (io), 7 VCC (power), 8 GND (power), 9 I/O (io), 10 I/O (io), 11 I/O (io), 12 I/O (io), 13 INPUT (in), 14 INPUT (in), 15 INPUT (in), 16 INPUT (in), 17 I/O (io), 18 I/O (io), 19 I/O (io), 20 I/O (io), 21 GND (power), 22 VCC (power), 23 I/O (io), 24 I/O (io), 25 I/O (io), 26 I/O (io), 27 INPUT (in), 28 INPUT (in)

## CY7C344B-20PI
designator U?
32-Macrocell MAX EPLD; Published: 11-Dec-2002; LatestRevisionDate: 04-Mar-2005; LatestRevisionNote: Stylized 3D Model Added.; DatasheetVersion: 8-Dec-1999; PackageVersion: Jul-2000; PackageReference: P21; Publisher: Altium Limited; PackageDescription: DIP, Molded; 28 Leads; Row Spacing 7.62 mm; Pitch 2.54 mm; ComponentLink1Description: Manufacturer Link; ComponentLink1URL: http://www.cypress.com/; ComponentLink2Description: Datasheet; ComponentLink2URL: http://www.cypress.com/portal/server.pt/gateway/PTARGS_0_2_1524_209_259_43/http%3B/sjapp20.mis.cypress.com%3B7001/publishedcontent/publish/design_resources/datasheets/contents/cy7c344b_5.pdf
footprint P21 (DIP, Molded; 28 Leads; Row Spacing 7.62 mm; Pitch 2.54 mm)
3D model P21 (DIP, Molded; 28 Leads; Row Spacing 7.62 mm; Pitch 2.54 mm)
pins: 1 INPUT (in), 2 INPUT/CLK (in), 3 I/O (io), 4 I/O (io), 5 I/O (io), 6 I/O (io), 7 VCC (power), 8 GND (power), 9 I/O (io), 10 I/O (io), 11 I/O (io), 12 I/O (io), 13 INPUT (in), 14 INPUT (in), 15 INPUT (in), 16 INPUT (in), 17 I/O (io), 18 I/O (io), 19 I/O (io), 20 I/O (io), 21 GND (power), 22 VCC (power), 23 I/O (io), 24 I/O (io), 25 I/O (io), 26 I/O (io), 27 INPUT (in), 28 INPUT (in)

## CY7C344B-20WC
designator U?
32-Macrocell MAX EPLD; Published: 11-Dec-2002; LatestRevisionDate: 04-Mar-2005; LatestRevisionNote: Stylized 3D Model Added.; DatasheetVersion: 8-Dec-1999; PackageVersion: Jul-2000; PackageReference: W22; Publisher: Altium Limited; PackageDescription: CerDIP, Window; 28 Leads; Row Spacing 7.62 mm; Pitch 2.54 mm; ComponentLink1Description: Manufacturer Link; ComponentLink1URL: http://www.cypress.com/; ComponentLink2Description: Datasheet; ComponentLink2URL: http://www.cypress.com/portal/server.pt/gateway/PTARGS_0_2_1524_209_259_43/http%3B/sjapp20.mis.cypress.com%3B7001/publishedcontent/publish/design_resources/datasheets/contents/cy7c344b_5.pdf
footprint W22 (CerDIP, Window; 28 Leads; Row Spacing 7.62 mm; Pitch 2.54 mm)
3D model W22 (CerDIP, Window; 28 Leads; Row Spacing 7.62 mm; Pitch 2.54 mm)
pins: 1 INPUT (in), 2 INPUT/CLK (in), 3 I/O (io), 4 I/O (io), 5 I/O (io), 6 I/O (io), 7 VCC (power), 8 GND (power), 9 I/O (io), 10 I/O (io), 11 I/O (io), 12 I/O (io), 13 INPUT (in), 14 INPUT (in), 15 INPUT (in), 16 INPUT (in), 17 I/O (io), 18 I/O (io), 19 I/O (io), 20 I/O (io), 21 GND (power), 22 VCC (power), 23 I/O (io), 24 I/O (io), 25 I/O (io), 26 I/O (io), 27 INPUT (in), 28 INPUT (in)

## CY7C344B-20WI
designator U?
32-Macrocell MAX EPLD; Published: 11-Dec-2002; LatestRevisionDate: 04-Mar-2005; LatestRevisionNote: Stylized 3D Model Added.; DatasheetVersion: 8-Dec-1999; PackageVersion: Jul-2000; PackageReference: W22; Publisher: Altium Limited; PackageDescription: CerDIP, Window; 28 Leads; Row Spacing 7.62 mm; Pitch 2.54 mm; ComponentLink1Description: Manufacturer Link; ComponentLink1URL: http://www.cypress.com/; ComponentLink2Description: Datasheet; ComponentLink2URL: http://www.cypress.com/portal/server.pt/gateway/PTARGS_0_2_1524_209_259_43/http%3B/sjapp20.mis.cypress.com%3B7001/publishedcontent/publish/design_resources/datasheets/contents/cy7c344b_5.pdf
footprint W22 (CerDIP, Window; 28 Leads; Row Spacing 7.62 mm; Pitch 2.54 mm)
3D model W22 (CerDIP, Window; 28 Leads; Row Spacing 7.62 mm; Pitch 2.54 mm)
pins: 1 INPUT (in), 2 INPUT/CLK (in), 3 I/O (io), 4 I/O (io), 5 I/O (io), 6 I/O (io), 7 VCC (power), 8 GND (power), 9 I/O (io), 10 I/O (io), 11 I/O (io), 12 I/O (io), 13 INPUT (in), 14 INPUT (in), 15 INPUT (in), 16 INPUT (in), 17 I/O (io), 18 I/O (io), 19 I/O (io), 20 I/O (io), 21 GND (power), 22 VCC (power), 23 I/O (io), 24 I/O (io), 25 I/O (io), 26 I/O (io), 27 INPUT (in), 28 INPUT (in)

## CY7C344B-25HC
designator U?
32-Macrocell MAX EPLD; Published: 11-Dec-2002; LatestRevisionDate: 13-Apr-2006; LatestRevisionNote: IPC-7351 Footprint Added.; DatasheetVersion: 8-Dec-1999; PackageVersion: Jul-2000; PackageReference: H64; Publisher: Altium Limited; PackageDescription: 28-Pin Window Leaded Chip Carrier 1.27 mm Pitch; ComponentLink1Description: Manufacturer Link; ComponentLink1URL: http://www.cypress.com/; ComponentLink2Description: Datasheet; ComponentLink2URL: http://www.cypress.com/portal/server.pt/gateway/PTARGS_0_2_1524_209_259_43/http%3B/sjapp20.mis.cypress.com%3B7001/publishedcontent/publish/design_resources/datasheets/contents/cy7c344b_5.pdf
footprint H64_N (Leaded Chip Carrier, 28-Leads, Body 11.4x11.4mm, Pitch 1.27mm, IPC Medium Density)
footprint H64_L (Leaded Chip Carrier, 28-Leads, Body 11.4x11.4mm, Pitch 1.27mm, IPC High Density)
footprint H64_M (Leaded Chip Carrier, 28-Leads, Body 11.4x11.4mm, Pitch 1.27mm, IPC Low Density)
3D model CY7C344B-H64 (28-Pin Window Leaded Chip Carrier 1.27 mm Pitch)
pins: 1 VCC (power), 2 I/O (io), 3 I/O (io), 4 I/O (io), 5 I/O (io), 6 INPUT (in), 7 INPUT (in), 8 INPUT (in), 9 INPUT/CLK (in), 10 I/O (io), 11 I/O (io), 12 I/O (io), 13 I/O (io), 14 VCC (power), 15 GND (power), 16 I/O (io), 17 I/O (io), 18 I/O (io), 19 I/O (io), 20 INPUT (in), 21 INPUT (in), 22 INPUT (in), 23 INPUT (in), 24 I/O (io), 25 I/O (io), 26 I/O (io), 27 I/O (io), 28 GND (power)

## CY7C344B-25HI
designator U?
32-Macrocell MAX EPLD; Published: 11-Dec-2002; LatestRevisionDate: 13-Apr-2006; LatestRevisionNote: IPC-7351 Footprint Added.; DatasheetVersion: 8-Dec-1999; PackageVersion: Jul-2000; PackageReference: H64; Publisher: Altium Limited; PackageDescription: 28-Pin Window Leaded Chip Carrier 1.27 mm Pitch; ComponentLink1Description: Manufacturer Link; ComponentLink1URL: http://www.cypress.com/; ComponentLink2Description: Datasheet; ComponentLink2URL: http://www.cypress.com/portal/server.pt/gateway/PTARGS_0_2_1524_209_259_43/http%3B/sjapp20.mis.cypress.com%3B7001/publishedcontent/publish/design_resources/datasheets/contents/cy7c344b_5.pdf
footprint H64_N (Leaded Chip Carrier, 28-Leads, Body 11.4x11.4mm, Pitch 1.27mm, IPC Medium Density)
footprint H64_L (Leaded Chip Carrier, 28-Leads, Body 11.4x11.4mm, Pitch 1.27mm, IPC High Density)
footprint H64_M (Leaded Chip Carrier, 28-Leads, Body 11.4x11.4mm, Pitch 1.27mm, IPC Low Density)
3D model CY7C344B-H64 (28-Pin Window Leaded Chip Carrier 1.27 mm Pitch)
pins: 1 VCC (power), 2 I/O (io), 3 I/O (io), 4 I/O (io), 5 I/O (io), 6 INPUT (in), 7 INPUT (in), 8 INPUT (in), 9 INPUT/CLK (in), 10 I/O (io), 11 I/O (io), 12 I/O (io), 13 I/O (io), 14 VCC (power), 15 GND (power), 16 I/O (io), 17 I/O (io), 18 I/O (io), 19 I/O (io), 20 INPUT (in), 21 INPUT (in), 22 INPUT (in), 23 INPUT (in), 24 I/O (io), 25 I/O (io), 26 I/O (io), 27 I/O (io), 28 GND (power)

## CY7C344B-25JC
designator U?
32-Macrocell MAX EPLD; Published: 11-Dec-2002; LatestRevisionDate: 13-Apr-2006; LatestRevisionNote: IPC-7351 Footprint Added.; DatasheetVersion: 8-Dec-1999; PackageVersion: Jul-2000; PackageReference: J64; Publisher: Altium Limited; PackageDescription: 28-Pin Plastic Leaded Chip Carrier 1.27 mm Pitch; Code_IPC: PLCC-28; ComponentLink1Description: Manufacturer Link; ComponentLink1URL: http://www.cypress.com/; ComponentLink2Description: Datasheet; ComponentLink2URL: http://www.cypress.com/portal/server.pt/gateway/PTARGS_0_2_1524_209_259_43/http%3B/sjapp20.mis.cypress.com%3B7001/publishedcontent/publish/design_resources/datasheets/contents/cy7c344b_5.pdf
footprint J64_N (Leaded Chip Carrier, 28-Leads, Body 11.5x11.5mm, Pitch 1.27mm, IPC Medium Density)
footprint J64_L (Leaded Chip Carrier, 28-Leads, Body 11.5x11.5mm, Pitch 1.27mm, IPC High Density)
footprint J64_M (Leaded Chip Carrier, 28-Leads, Body 11.5x11.5mm, Pitch 1.27mm, IPC Low Density)
3D model CY7C344B-J64 (28-Pin Plastic Leaded Chip Carrier 1.27 mm Pitch)
pins: 1 VCC (power), 2 I/O (io), 3 I/O (io), 4 I/O (io), 5 I/O (io), 6 INPUT (in), 7 INPUT (in), 8 INPUT (in), 9 INPUT/CLK (in), 10 I/O (io), 11 I/O (io), 12 I/O (io), 13 I/O (io), 14 VCC (power), 15 GND (power), 16 I/O (io), 17 I/O (io), 18 I/O (io), 19 I/O (io), 20 INPUT (in), 21 INPUT (in), 22 INPUT (in), 23 INPUT (in), 24 I/O (io), 25 I/O (io), 26 I/O (io), 27 I/O (io), 28 GND (power)

## CY7C344B-25JI
designator U?
32-Macrocell MAX EPLD; Published: 11-Dec-2002; LatestRevisionDate: 13-Apr-2006; LatestRevisionNote: IPC-7351 Footprint Added.; DatasheetVersion: 8-Dec-1999; PackageVersion: Jul-2000; PackageReference: J64; Publisher: Altium Limited; PackageDescription: 28-Pin Plastic Leaded Chip Carrier 1.27 mm Pitch; Code_IPC: PLCC-28; ComponentLink1Description: Manufacturer Link; ComponentLink1URL: http://www.cypress.com/; ComponentLink2Description: Datasheet; ComponentLink2URL: http://www.cypress.com/portal/server.pt/gateway/PTARGS_0_2_1524_209_259_43/http%3B/sjapp20.mis.cypress.com%3B7001/publishedcontent/publish/design_resources/datasheets/contents/cy7c344b_5.pdf
footprint J64_N (Leaded Chip Carrier, 28-Leads, Body 11.5x11.5mm, Pitch 1.27mm, IPC Medium Density)
footprint J64_L (Leaded Chip Carrier, 28-Leads, Body 11.5x11.5mm, Pitch 1.27mm, IPC High Density)
footprint J64_M (Leaded Chip Carrier, 28-Leads, Body 11.5x11.5mm, Pitch 1.27mm, IPC Low Density)
3D model CY7C344B-J64 (28-Pin Plastic Leaded Chip Carrier 1.27 mm Pitch)
pins: 1 VCC (power), 2 I/O (io), 3 I/O (io), 4 I/O (io), 5 I/O (io), 6 INPUT (in), 7 INPUT (in), 8 INPUT (in), 9 INPUT/CLK (in), 10 I/O (io), 11 I/O (io), 12 I/O (io), 13 I/O (io), 14 VCC (power), 15 GND (power), 16 I/O (io), 17 I/O (io), 18 I/O (io), 19 I/O (io), 20 INPUT (in), 21 INPUT (in), 22 INPUT (in), 23 INPUT (in), 24 I/O (io), 25 I/O (io), 26 I/O (io), 27 I/O (io), 28 GND (power)

## CY7C344B-25PC
designator U?
32-Macrocell MAX EPLD; Published: 11-Dec-2002; LatestRevisionDate: 04-Mar-2005; LatestRevisionNote: Stylized 3D Model Added.; DatasheetVersion: 8-Dec-1999; PackageVersion: Jul-2000; PackageReference: P21; Publisher: Altium Limited; PackageDescription: DIP, Molded; 28 Leads; Row Spacing 7.62 mm; Pitch 2.54 mm; ComponentLink1Description: Manufacturer Link; ComponentLink1URL: http://www.cypress.com/; ComponentLink2Description: Datasheet; ComponentLink2URL: http://www.cypress.com/portal/server.pt/gateway/PTARGS_0_2_1524_209_259_43/http%3B/sjapp20.mis.cypress.com%3B7001/publishedcontent/publish/design_resources/datasheets/contents/cy7c344b_5.pdf
footprint P21 (DIP, Molded; 28 Leads; Row Spacing 7.62 mm; Pitch 2.54 mm)
3D model P21 (DIP, Molded; 28 Leads; Row Spacing 7.62 mm; Pitch 2.54 mm)
pins: 1 INPUT (in), 2 INPUT/CLK (in), 3 I/O (io), 4 I/O (io), 5 I/O (io), 6 I/O (io), 7 VCC (power), 8 GND (power), 9 I/O (io), 10 I/O (io), 11 I/O (io), 12 I/O (io), 13 INPUT (in), 14 INPUT (in), 15 INPUT (in), 16 INPUT (in), 17 I/O (io), 18 I/O (io), 19 I/O (io), 20 I/O (io), 21 GND (power), 22 VCC (power), 23 I/O (io), 24 I/O (io), 25 I/O (io), 26 I/O (io), 27 INPUT (in), 28 INPUT (in)

## CY7C344B-25PI
designator U?
32-Macrocell MAX EPLD; Published: 11-Dec-2002; LatestRevisionDate: 04-Mar-2005; LatestRevisionNote: Stylized 3D Model Added.; DatasheetVersion: 8-Dec-1999; PackageVersion: Jul-2000; PackageReference: P21; Publisher: Altium Limited; PackageDescription: DIP, Molded; 28 Leads; Row Spacing 7.62 mm; Pitch 2.54 mm; ComponentLink1Description: Manufacturer Link; ComponentLink1URL: http://www.cypress.com/; ComponentLink2Description: Datasheet; ComponentLink2URL: http://www.cypress.com/portal/server.pt/gateway/PTARGS_0_2_1524_209_259_43/http%3B/sjapp20.mis.cypress.com%3B7001/publishedcontent/publish/design_resources/datasheets/contents/cy7c344b_5.pdf
footprint P21 (DIP, Molded; 28 Leads; Row Spacing 7.62 mm; Pitch 2.54 mm)
3D model P21 (DIP, Molded; 28 Leads; Row Spacing 7.62 mm; Pitch 2.54 mm)
pins: 1 INPUT (in), 2 INPUT/CLK (in), 3 I/O (io), 4 I/O (io), 5 I/O (io), 6 I/O (io), 7 VCC (power), 8 GND (power), 9 I/O (io), 10 I/O (io), 11 I/O (io), 12 I/O (io), 13 INPUT (in), 14 INPUT (in), 15 INPUT (in), 16 INPUT (in), 17 I/O (io), 18 I/O (io), 19 I/O (io), 20 I/O (io), 21 GND (power), 22 VCC (power), 23 I/O (io), 24 I/O (io), 25 I/O (io), 26 I/O (io), 27 INPUT (in), 28 INPUT (in)

## CY7C346-25HC
designator U?
128-Macrocell MAX EPLD; Published: 11-Dec-2002; LatestRevisionDate: 13-Apr-2006; LatestRevisionNote: IPC-7351 Footprint Added.; DatasheetVersion: 18-Jul-2000; PackageVersion: 8-Apr-2002; PackageReference: H84; Publisher: Altium Limited; PackageDescription: 84-Pin Window Leaded Chip Carrier 1.27 mm Pitch; ComponentLink1Description: Manufacturer Link; ComponentLink1URL: http://www.cypress.com/
footprint H84_N (Leaded Chip Carrier, 84-Leads, Body 29.2x29.2mm, Pitch 1.27mm, IPC Medium Density)
footprint H84_L (Leaded Chip Carrier, 84-Leads, Body 29.2x29.2mm, Pitch 1.27mm, IPC High Density)
footprint H84_M (Leaded Chip Carrier, 84-Leads, Body 29.2x29.2mm, Pitch 1.27mm, IPC Low Density)
3D model CY7C346-H84 (84-Pin Window Leaded Chip Carrier 1.27 mm Pitch)
pins: 1 INPUT/CLK (in), 2 INPUT (in), 3 VCC (power), 4 VCC (power), 5 INPUT (in), 6 INPUT (in), 7 INPUT (in), 8 I/O (io), 9 I/O (io), 10 I/O (io), 11 I/O (io), 12 I/O (io), 13 I/O (io), 14 I/O (io), 15 I/O (io), 16 I/O (io), 17 I/O (io), 18 I/O (io), 19 GND (power), 20 GND (power), 21 I/O (io), 22 I/O (io), 23 VCC (power), 24 VCC (power), 25 I/O (io), 26 I/O (io), 27 I/O (io), 28 I/O (io), 29 I/O (io), 30 I/O (io), 31 I/O (io), 32 I/O (io), 33 I/O (io), 34 I/O (io), 35 I/O (io), 36 INPUT (in), 37 INPUT (in), 38 INPUT (in), 39 GND (power), 40 GND (power), 41 INPUT (in), 42 INPUT (in), 43 INPUT (in), 44 INPUT (in), 45 VCC (power), 46 VCC (power), 47 INPUT (in), 48 INPUT (in), 49 INPUT (in), 50 I/O (io), 51 I/O (io), 52 I/O (io), 53 I/O (io), 54 I/O (io), 55 I/O (io), 56 I/O (io), 57 I/O (io), 58 I/O (io), 59 I/O (io), 60 I/O (io), 61 GND (power), 62 GND (power), 63 I/O (io), 64 I/O (io), 65 VCC (power), 66 VCC (power), 67 I/O (io), 68 I/O (io), 69 I/O (io), 70 I/O (io), 71 I/O (io), 72 I/O (io), 73 I/O (io), 74 I/O (io), 75 I/O (io), 76 I/O (io), 77 I/O (io), 78 INPUT (in), 79 INPUT (in), 80 INPUT (in), 81 GND (power), 82 GND (power), 83 INPUT (in), 84 INPUT (in)

## CY7C346-25HI
designator U?
128-Macrocell MAX EPLD; Published: 11-Dec-2002; LatestRevisionDate: 13-Apr-2006; LatestRevisionNote: IPC-7351 Footprint Added.; DatasheetVersion: 18-Jul-2000; PackageVersion: 8-Apr-2002; PackageReference: H84; Publisher: Altium Limited; PackageDescription: 84-Pin Window Leaded Chip Carrier 1.27 mm Pitch; ComponentLink1Description: Manufacturer Link; ComponentLink1URL: http://www.cypress.com/
footprint H84_N (Leaded Chip Carrier, 84-Leads, Body 29.2x29.2mm, Pitch 1.27mm, IPC Medium Density)
footprint H84_L (Leaded Chip Carrier, 84-Leads, Body 29.2x29.2mm, Pitch 1.27mm, IPC High Density)
footprint H84_M (Leaded Chip Carrier, 84-Leads, Body 29.2x29.2mm, Pitch 1.27mm, IPC Low Density)
3D model CY7C346-H84 (84-Pin Window Leaded Chip Carrier 1.27 mm Pitch)
pins: 1 INPUT/CLK (in), 2 INPUT (in), 3 VCC (power), 4 VCC (power), 5 INPUT (in), 6 INPUT (in), 7 INPUT (in), 8 I/O (io), 9 I/O (io), 10 I/O (io), 11 I/O (io), 12 I/O (io), 13 I/O (io), 14 I/O (io), 15 I/O (io), 16 I/O (io), 17 I/O (io), 18 I/O (io), 19 GND (power), 20 GND (power), 21 I/O (io), 22 I/O (io), 23 VCC (power), 24 VCC (power), 25 I/O (io), 26 I/O (io), 27 I/O (io), 28 I/O (io), 29 I/O (io), 30 I/O (io), 31 I/O (io), 32 I/O (io), 33 I/O (io), 34 I/O (io), 35 I/O (io), 36 INPUT (in), 37 INPUT (in), 38 INPUT (in), 39 GND (power), 40 GND (power), 41 INPUT (in), 42 INPUT (in), 43 INPUT (in), 44 INPUT (in), 45 VCC (power), 46 VCC (power), 47 INPUT (in), 48 INPUT (in), 49 INPUT (in), 50 I/O (io), 51 I/O (io), 52 I/O (io), 53 I/O (io), 54 I/O (io), 55 I/O (io), 56 I/O (io), 57 I/O (io), 58 I/O (io), 59 I/O (io), 60 I/O (io), 61 GND (power), 62 GND (power), 63 I/O (io), 64 I/O (io), 65 VCC (power), 66 VCC (power), 67 I/O (io), 68 I/O (io), 69 I/O (io), 70 I/O (io), 71 I/O (io), 72 I/O (io), 73 I/O (io), 74 I/O (io), 75 I/O (io), 76 I/O (io), 77 I/O (io), 78 INPUT (in), 79 INPUT (in), 80 INPUT (in), 81 GND (power), 82 GND (power), 83 INPUT (in), 84 INPUT (in)

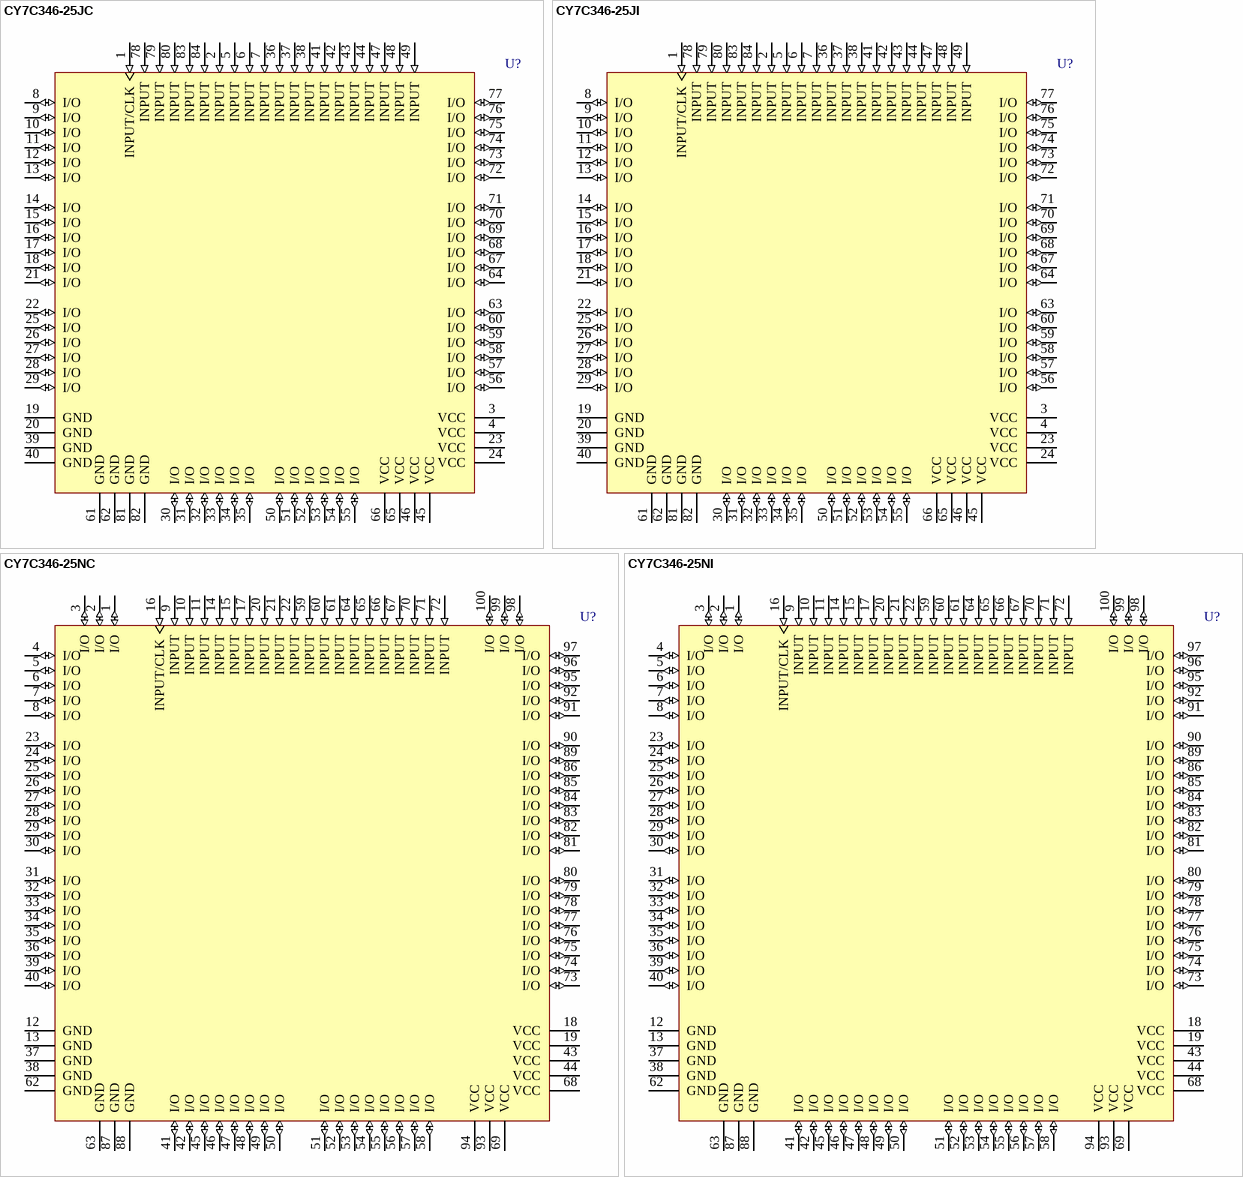
[diagram p14: symbols CY7C346-25JC to CY7C346-25NI]